# Altium schematic symbol library 2.8寸QVGA触摸屏.SchLib: 1 symbol
Pins are listed as number, name and electrical type; pins without a type are passive.

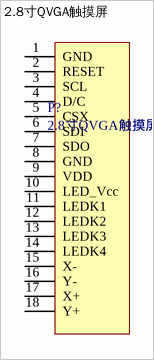
[diagram p0: symbol 2.8寸QVGA触摸屏]

## 2.8寸QVGA触摸屏
designator P?
footprint 2.8寸电阻屏
pins: 1 GND, 2 RESET, 3 SCL, 4 D/C, 5 CSX, 6 SDI, 7 SDO, 8 GND, 9 VDD, 10 LED_Vcc, 11 LEDK1, 12 LEDK2, 13 LEDK3, 14 LEDK4, 15 X-, 16 Y-, 17 X+, 18 Y+